# Altium schematic symbol library Chips.SchLib: 10 symbols
Pins are listed as number, name and electrical type; pins without a type are passive.

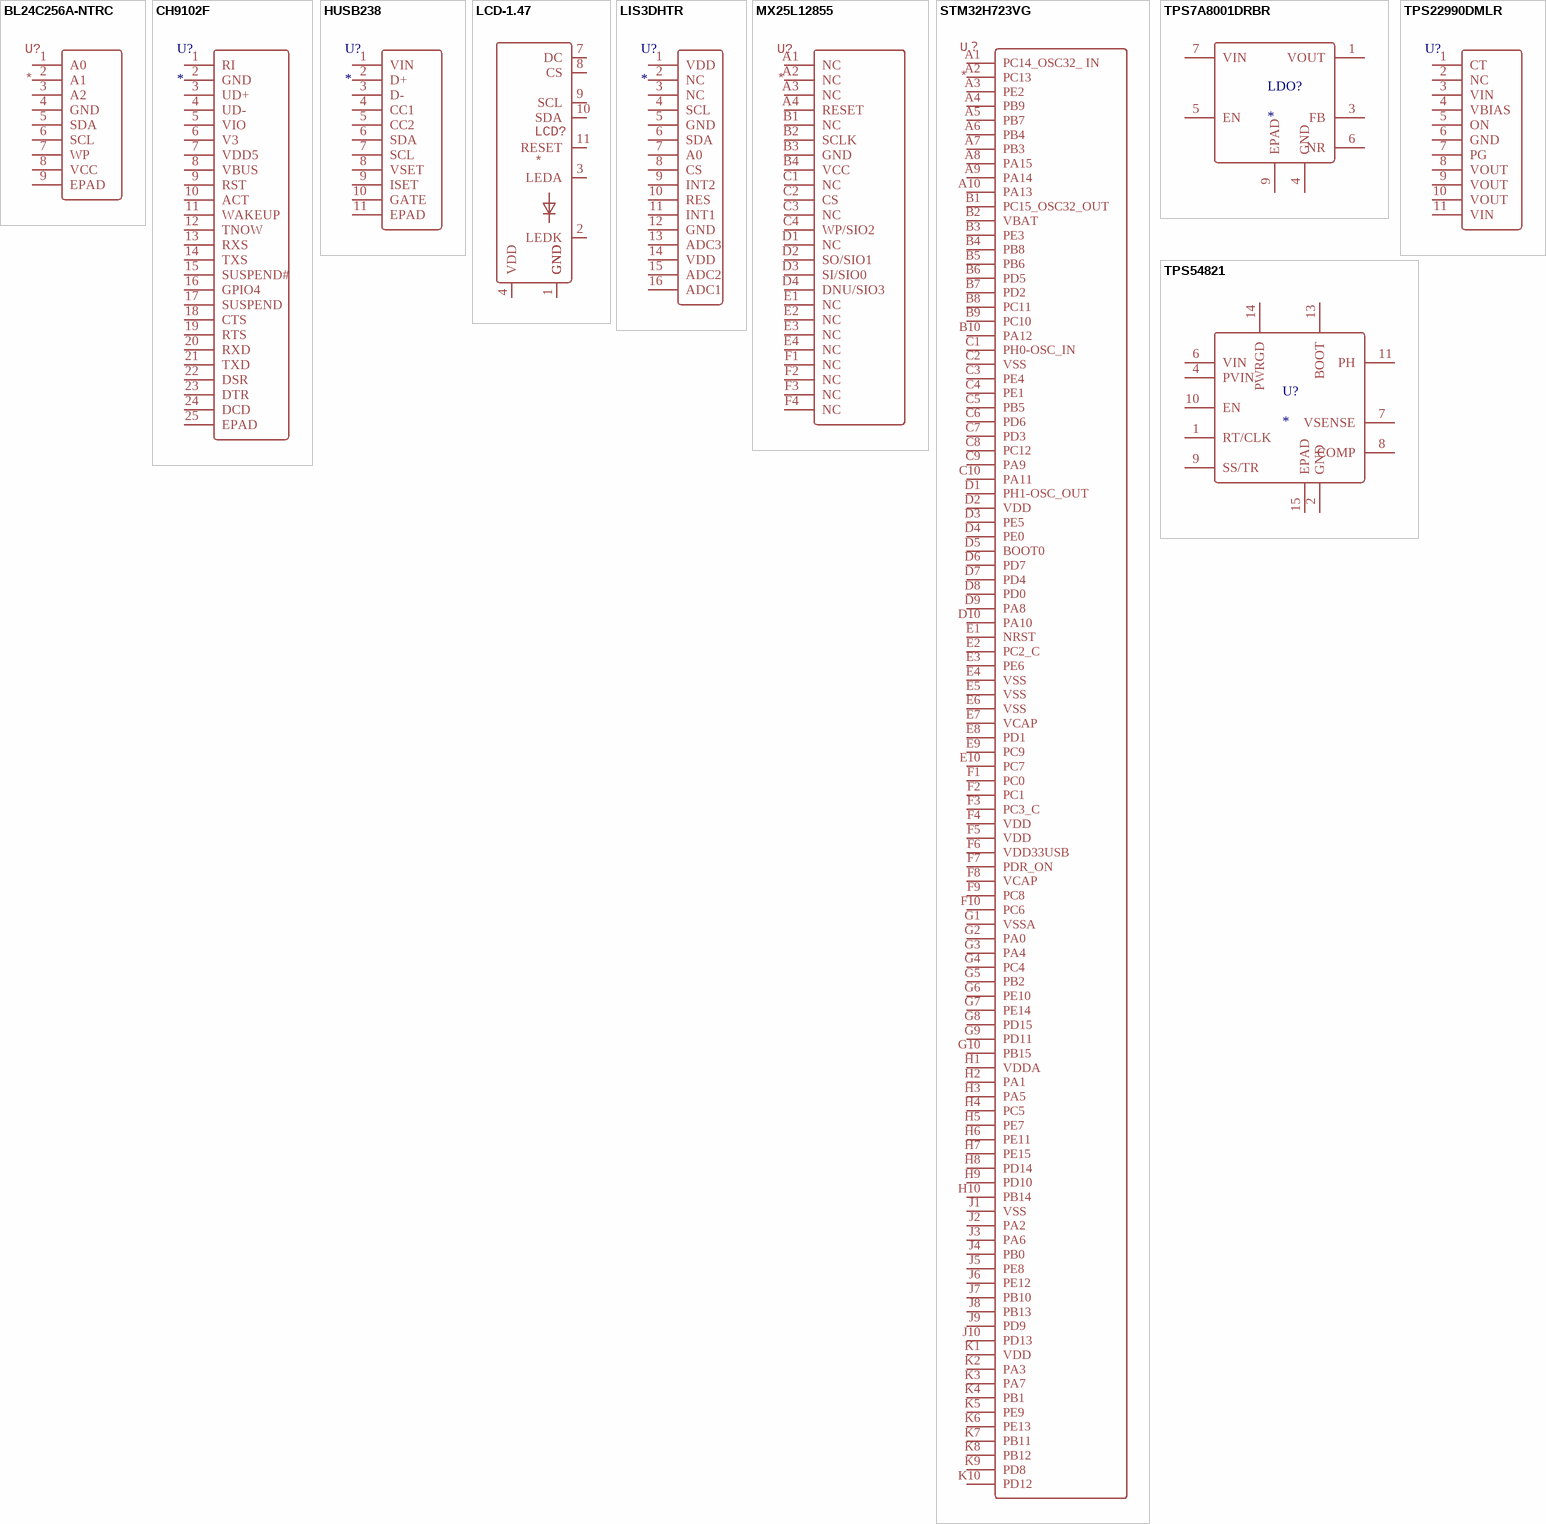
[diagram p0: symbols BL24C256A-NTRC to TPS54821]

## BL24C256A-NTRC
designator U?
EEPROM  UDFN-8L
footprint UDFN-8L 2x3mm (UDFN-8 SON-8 2x3mm Pitch 0.50mm)
pins: 1 A0, 2 A1, 3 A2, 4 GND, 5 SDA, 6 SCL, 7 WP, 8 VCC, 9 EPAD

## CH9102F
designator U?
USB -> UART
pins: 1 RI, 2 GND, 3 UD+, 4 UD-, 5 VIO, 6 V3, 7 VDD5, 8 VBUS, 9 RST, 10 ACT, 11 WAKEUP, 12 TNOW, 13 RXS, 14 TXS, 15 SUSPEND#, 16 GPIO4, 17 SUSPEND, 18 CTS, 19 RTS, 20 RXD, 21 TXD, 22 DSR, 23 DTR, 24 DCD, 25 EPAD

## HUSB238
designator U?
PD3.0 Sink
pins: 1 VIN, 2 D+, 3 D-, 4 CC1, 5 CC2, 6 SDA, 7 SCL, 8 VSET, 9 ISET, 10 GATE, 11 EPAD

## LCD-1.47
designator LCD?
LBS147TC-IG01 1.47 inch 172RGB*320DOTS ST7789
footprint LCD 1.47 12P (LBS147TC-IG01 1.47 inch 172RGB*320DOTS ST7789)
pins: 1 GND, 2 LEDK, 3 LEDA, 4 VDD, 5 GND, 6 GND, 7 DC, 8 CS, 9 SCL, 10 SDA, 11 RESET, 12 GND

## LIS3DHTR
designator U?
3-Axis MEMS Accelerometer
footprint LGA-16 3x3mm (LGA-16 3x3mm Pitch 0.50mm)
pins: 1 VDD, 2 NC, 3 NC, 4 SCL, 5 GND, 6 SDA, 7 A0, 8 CS, 9 INT2, 10 RES, 11 INT1, 12 GND, 13 ADC3, 14 VDD, 15 ADC2, 16 ADC1

## MX25L12855
designator U?
FXCI-10G QSPI Nor Flash
footprint TFBGA-24 6x8mm (TFBGA-24 6x8mm Pitch 1.00mm)
pins: A1 NC, A2 NC, A3 NC, A4 RESET, B1 NC, B2 SCLK, B3 GND, B4 VCC, C1 NC, C2 CS, C3 NC, C4 WP/SIO2, D1 NC, D2 SO/SIO1, D3 SI/SIO0, D4 DNU/SIO3, E1 NC, E2 NC, E3 NC, E4 NC, F1 NC, F2 NC, F3 NC, F4 NC

## STM32H723VG
designator U？
STM32 Cortex-M7 TFBGA-100
footprint TFBGA-100 8x8mm (TFBGA-100 8x8mm Pitch 0.80mm)
pins: A1 PC14_OSC32_ IN, A2 PC13, A3 PE2, A4 PB9, A5 PB7, A6 PB4, A7 PB3, A8 PA15, A9 PA14, A10 PA13, B1 PC15_OSC32_OUT, B2 VBAT, B3 PE3, B4 PB8, B5 PB6, B6 PD5, B7 PD2, B8 PC11, B9 PC10, B10 PA12, C1 PH0-OSC_IN, C2 VSS, C3 PE4, C4 PE1, C5 PB5, C6 PD6, C7 PD3, C8 PC12, C9 PA9, C10 PA11, D1 PH1-OSC_OUT, D2 VDD, D3 PE5, D4 PE0, D5 BOOT0, D6 PD7, D7 PD4, D8 PD0, D9 PA8, D10 PA10, E1 NRST, E2 PC2_C, E3 PE6, E4 VSS, E5 VSS, E6 VSS, E7 VCAP, E8 PD1, E9 PC9, E10 PC7, F1 PC0, F2 PC1, F3 PC3_C, F4 VDD, F5 VDD, F6 VDD33USB, F7 PDR_ON, F8 VCAP, F9 PC8, F10 PC6, G1 VSSA, G2 PA0, G3 PA4, G4 PC4, G5 PB2, G6 PE10, G7 PE14, G8 PD15, G9 PD11, G10 PB15, H1 VDDA, H2 PA1, H3 PA5, H4 PC5, H5 PE7, H6 PE11, H7 PE15, H8 PD14, H9 PD10, H10 PB14, J1 VSS, J2 PA2, J3 PA6, J4 PB0, J5 PE8, J6 PE12, J7 PB10, J8 PB13, J9 PD9, J10 PD13, K1 VDD, K2 PA3, K3 PA7, K4 PB1, K5 PE9, K6 PE13, K7 PB11, K8 PB12, K9 PD8, K10 PD12

## TPS7A8001DRBR
designator LDO?
LDO ADJ
footprint VSON-8-EP 3x3mm (VSON-8-EP QFN-12 3x3mm Pitch 0.65mm)
pins: 1 VOUT, 2 VOUT, 3 FB, 4 GND, 5 EN, 6 NR, 7 VIN, 8 VIN, 9 EPAD

## TPS22990DMLR
designator U?
LoadSwitch 5.5V 3.9mΩ
pins: 1 CT (oc), 2 NC (oc), 3 VIN (oc), 4 VBIAS (oc), 5 ON (oc), 6 GND (oc), 7 PG (oc), 8 VOUT (oc), 9 VOUT (oc), 10 VOUT (oc), 11 VIN (oc)

## TPS54821
designator U?
DC-DC 4.5~17V 8A 1.6MHz
pins: 1 RT/CLK, 2 GND, 3 GND, 4 PVIN, 5 PVIN, 6 VIN, 7 VSENSE, 8 COMP, 9 SS/TR, 10 EN, 11 PH, 12 PH, 13 BOOT, 14 PWRGD, 15 EPAD